# EAGLE library part SN74AVCB324245 (library diode-20CJQ030)
Ti's SN74AVCB324245 32-BIT DUAL-SUPPLY BUS TRANSCEIVER WITH CONFIGURABLE VOLTAGE TRANSLATION AND 3-STATE OUTPUTS Description: This 32-bit noninverting bus transceiver uses two separate configurable power-supply rails. The A port is designed to track VCCA. VCCA accepts any supply voltage from 1.4 V to 3.6 V. The B port is designed to track VCCB. VCCB accepts any supply voltage from 1.4 V to 3.6 V. This allows for universal low-voltage bidirectional translation between any of the 1.5-V, 1.8-V, 2.5-V, and 3.3-V voltage nodes. The SN74AVCB324245 is designed for asynchronous communication between data buses. The device transmits data from the A bus to the B bus or from the B bus to the A bus, depending on the logic level at the direction-control (DIR) input. The output-enable (OE) input can be used to disable the outputs so the buses are effectively isolated. The SN74AVCB324245 is designed so that the control pins (1DIR, 2DIR, 1OE, and 2OE) are supplied by VCCB. To ensure the high-impedance state during power up or power down, OE shall be tied to VCCB through a pullup resistor; the minimum value of the resistor is determined by the current-sinking capability of the driver. This device is fully specified for partial-power-down applications using Ioff. The Ioff circuitry disables the outputs, preventing damaging current backflow through the device when it is powered down. If either VCC input is at GND, both ports are in the high-impedance state. Features: Member of the Texas Instruments Widebus+ Family DOC? Circuitry Dynamically Changes Output Impedance, Resulting in Noise Reduction Without Speed Degradation Dynamic Drive Capability Is Equivalent to Standard Outputs With IOH and IOL of - ±24 mA at 3-V VCC - ±15 mA at 2.3-V VCC - ±9 mA at 1.65-V VCC - ±6 mA at 1.4-V VCC Control Inputs VIH/VIL Levels Are Referenced to VCCB Voltage If Either VCC Input Is at GND, Both Ports Are in the High-Impedance State Inputs/Outputs Can Tolerate up to 4.6 V, Which Allows Mixed-Voltage-Mode Data Communications Ioff Supports Partial-Power-Down Mode Operation Fully Configurable Dual-Rail Design Allows Each Port to Operate Over the Full 1.4-V to 3.6-V Power-Supply Range Latch-Up Performance Exceeds 100 mA Per JESD 78, Class II ESD Protection Exceeds JESD 22 - 2000-V Human-Body Model (A114-A) - 200-V Machine Model (A115-A) - 1000-V Charged-Device Model (C101) Please send any comments to: messi@users.sourceforge.net
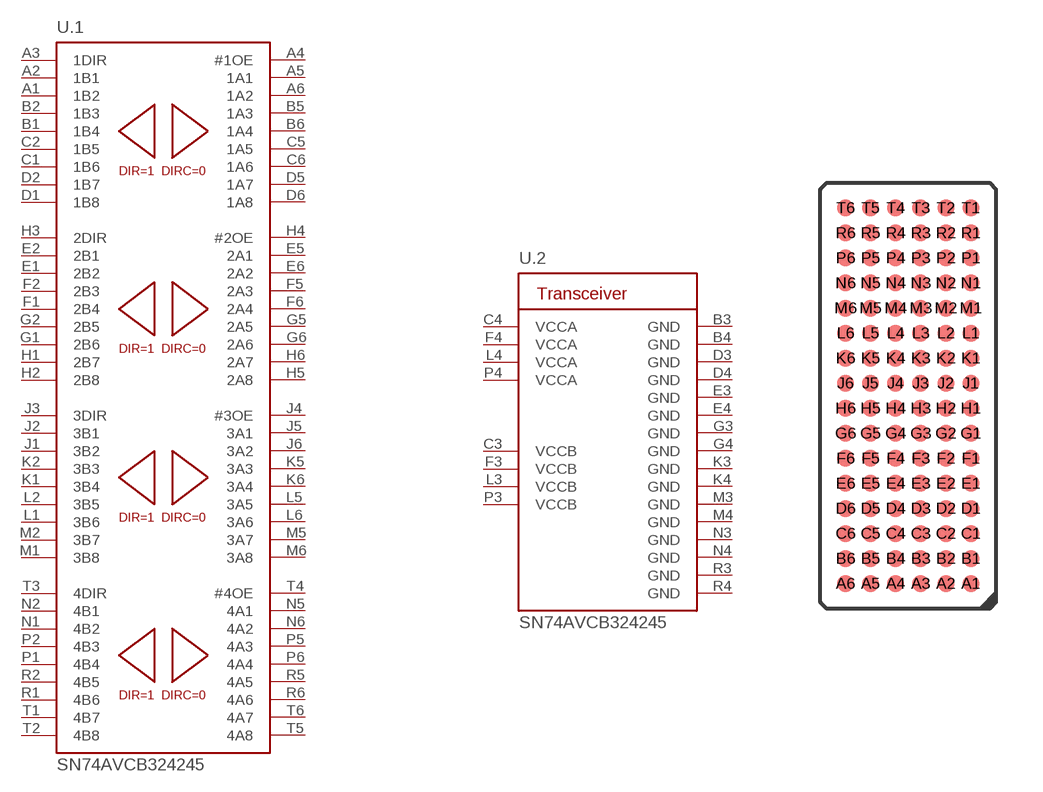
[diagram p113: symbol with the pads of LFBGA96; footprint LFBGA96]

Designator prefix U; gates .1=SN74AVCB324245 .2=SN74AVC324245_PWR

## SN74AVCB324245-GKE  [LFBGA96]
A1  .1:1B2
A2  .1:1B1
A3  .1:1DIR  in
A4  .1:#1OE  in
A5  .1:1A1
A6  .1:1A2
B1  .1:1B4
B2  .1:1B3
B3  .2:GND  pwr
B4  .2:GND  pwr
B5  .1:1A3
B6  .1:1A4
C1  .1:1B6
C2  .1:1B5
C3  .2:VCCB  pwr
C4  .2:VCCA  pwr
C5  .1:1A5
C6  .1:1A6
D1  .1:1B8
D2  .1:1B7
D3  .2:GND  pwr
D4  .2:GND  pwr
D5  .1:1A7
D6  .1:1A8
E1  .1:2B2
E2  .1:2B1
E3  .2:GND  pwr
E4  .2:GND  pwr
E5  .1:2A1
E6  .1:2A2
F1  .1:2B4
F2  .1:2B3
F3  .2:VCCB  pwr
F4  .2:VCCA  pwr
F5  .1:2A3
F6  .1:2A4
G1  .1:2B6
G2  .1:2B5
G3  .2:GND  pwr
G4  .2:GND  pwr
G5  .1:2A5
G6  .1:2A6
H1  .1:2B7
H2  .1:2B8
H3  .1:2DIR  in
H4  .1:#2OE  in
H5  .1:2A8
H6  .1:2A7
J1  .1:3B2
J2  .1:3B1
J3  .1:3DIR  in
J4  .1:#3OE  in
J5  .1:3A1
J6  .1:3A2
K1  .1:3B4
K2  .1:3B3
K3  .2:GND  pwr
K4  .2:GND  pwr
K5  .1:3A3
K6  .1:3A4
L1  .1:3B6
L2  .1:3B5
L3  .2:VCCB  pwr
L4  .2:VCCA  pwr
L5  .1:3A5
L6  .1:3A6
M1  .1:3B8
M2  .1:3B7
M3  .2:GND  pwr
M4  .2:GND  pwr
M5  .1:3A7
M6  .1:3A8
N1  .1:4B2  in
N2  .1:4B1  in
N3  .2:GND  pwr
N4  .2:GND  pwr
N5  .1:4A1  in
N6  .1:4A2  in
P1  .1:4B4  in
P2  .1:4B3  in
P3  .2:VCCB  pwr
P4  .2:VCCA  pwr
P5  .1:4A3  in
P6  .1:4A4  in
R1  .1:4B6  in
R2  .1:4B5  in
R3  .2:GND  pwr
R4  .2:GND  pwr
R5  .1:4A5  in
R6  .1:4A6  in
T1  .1:4B7  in
T2  .1:4B8  in
T3  .1:4DIR  in
T4  .1:#4OE  in
T5  .1:4A8  in
T6  .1:4A7  in

## Footprint LFBGA96 (pad centres in mm)
Ti's Package LFBGA-96
smd 0.55 x 0.55: A1 2,-6; A2 1.2,-6; A3 0.4,-6; A4 -0.4,-6; A5 -1.2,-6; A6 -2,-6; B1 2,-5.2; B2 1.2,-5.2; B3 0.4,-5.2; B4 -0.4,-5.2; B5 -1.2,-5.2; B6 -2,-5.2; C1 2,-4.4; C2 1.2,-4.4; C3 0.4,-4.4; C4 -0.4,-4.4; C5 -1.2,-4.4; C6 -2,-4.4; D1 2,-3.6; D2 1.2,-3.6; D3 0.4,-3.6; D4 -0.4,-3.6; D5 -1.2,-3.6; D6 -2,-3.6; E1 2,-2.8; E2 1.2,-2.8; E3 0.4,-2.8; E4 -0.4,-2.8; E5 -1.2,-2.8; E6 -2,-2.8; F1 2,-2; F2 1.2,-2; F3 0.4,-2; F4 -0.4,-2; F5 -1.2,-2; F6 -2,-2; G1 2,-1.2; G2 1.2,-1.2; G3 0.4,-1.2; G4 -0.4,-1.2; G5 -1.2,-1.2; G6 -2,-1.2; H1 2,-0.4; H2 1.2,-0.4; H3 0.4,-0.4; H4 -0.4,-0.4; H5 -1.2,-0.4; H6 -2,-0.4; J1 2,0.4; J2 1.2,0.4; J3 0.4,0.4; J4 -0.4,0.4; J5 -1.2,0.4; J6 -2,0.4; K1 2,1.2; K2 1.2,1.2; K3 0.4,1.2; K4 -0.4,1.2; K5 -1.2,1.2; K6 -2,1.2; L1 2,2; L2 1.2,2; L3 0.4,2; L4 -0.4,2; L5 -1.2,2; L6 -2,2; M1 2,2.8; M2 1.2,2.8; M3 0.4,2.8; M4 -0.4,2.8; M5 -1.2,2.8; M6 -2,2.8; N1 2,3.6; N2 1.2,3.6; N3 0.4,3.6; N4 -0.4,3.6; N5 -1.2,3.6; N6 -2,3.6; P1 2,4.4; P2 1.2,4.4; P3 0.4,4.4; P4 -0.4,4.4; P5 -1.2,4.4; P6 -2,4.4; R1 2,5.2; R2 1.2,5.2; R3 0.4,5.2; R4 -0.4,5.2; R5 -1.2,5.2; R6 -2,5.2; T1 2,6; T2 1.2,6; T3 0.4,6; T4 -0.4,6; T5 -1.2,6; T6 -2,6